# Altium schematic symbol library KF301-5.0-2P.SchLib: 1 symbol
Pins are listed as number, name and electrical type; pins without a type are passive.

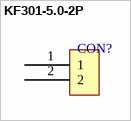
[diagram p0: symbol KF301-5.0-2P]

## KF301-5.0-2P
designator CON?
footprint KF301-5.0-2P
pins: 1, 2